# EAGLE library part SWITCH:DPDT (library QuantumOptics)
Switch, DPDT
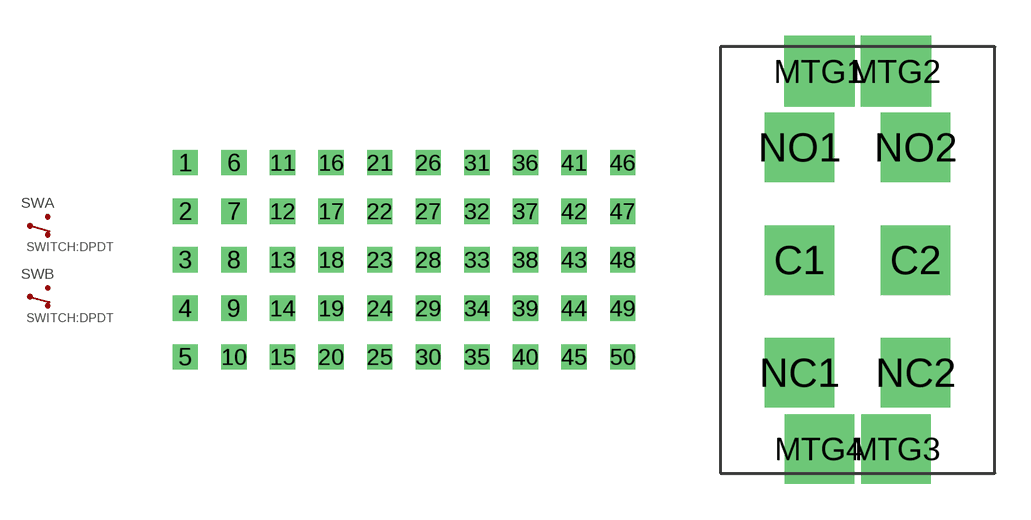
[diagram p28: symbol with the pads of PLACEHOLDER; footprints PLACEHOLDER, SWITCH-ESWITCH_100DP?VS2]

Designator prefix SW; gates A=SWITCH:SPDT B=SWITCH:SPDT

## SWITCH:DPDT  [PLACEHOLDER]
1  A:COM
2  A:NC\DOWN\LEFT
3  A:NO\UP\RIGHT
4  B:COM
5  B:NC\DOWN\LEFT
6  B:NO\UP\RIGHT

## SWITCH:DPDT-ESWITCH_100DP?VS2  [SWITCH-ESWITCH_100DP?VS2]
C1  A:COM
C2  B:COM
NC1  A:NC\DOWN\LEFT
NC2  B:NC\DOWN\LEFT
NO1  A:NO\UP\RIGHT
NO2  B:NO\UP\RIGHT

## SWITCH:DPDT-ESWITCH_2??D?AV2?  [SWITCH:E-SWITCH_2??D?AV2?]
COM1  A:COM
COM2  B:COM
DN1  A:NC\DOWN\LEFT
DN2  B:NC\DOWN\LEFT
UP1  A:NO\UP\RIGHT
UP2  B:NO\UP\RIGHT

## SWITCH:DPDT-ESWITCH_2??D?A?  [SWITCH:E-SWITCH_2??D?A?]
COM1  A:COM
COM2  B:COM
LEFT1  A:NC\DOWN\LEFT
LEFT2  B:NC\DOWN\LEFT
RIGHT1  A:NO\UP\RIGHT
RIGHT2  B:NO\UP\RIGHT

## SWITCH:DPDT-TYCO_MPG206RPC  [SWITCH:TYCO_MPG206RPC]
COM1  A:COM
COM2  B:COM
NC1  A:NC\DOWN\LEFT
NC2  B:NC\DOWN\LEFT
NO1  A:NO\UP\RIGHT
NO2  B:NO\UP\RIGHT

## SWITCH:DPDT-COPAL_CS4(6PAD)  [SWITCH:DPDT-DIP(COPAL-CS4_6-PAD)]
1  A:NC\DOWN\LEFT
2  A:NO\UP\RIGHT
!1  B:NC\DOWN\LEFT
!2  B:NO\UP\RIGHT
!C  B:COM
C  A:COM

## SWITCH:DPDT-COPAL_CAS-XXX-B  [SWITCH,DPDT,COPAL_CAS-XXX-B]
1  A:NO\UP\RIGHT
2  A:COM
3  A:NC\DOWN\LEFT
4  B:NC\DOWN\LEFT
5  B:COM
6  B:NO\UP\RIGHT

## Footprint PLACEHOLDER (pad centres in mm)
Non-existant decal, a Placeholder, used to make a part which does not need a package but Eagle demands something, e.g. if making schematic only and don't care about PCB. Pins are labeled "1" through "50".
drill 0.813 square: 1 -7.62,10.16; 2 -7.62,7.62; 3 -7.62,5.08; 4 -7.62,2.54; 5 -7.62,0; 6 -5.08,10.16; 7 -5.08,7.62; 8 -5.08,5.08; 9 -5.08,2.54; 10 -5.08,0; 11 -2.54,10.16; 12 -2.54,7.62; 13 -2.54,5.08; 14 -2.54,2.54; 15 -2.54,0; 16 0,10.16; 17 0,7.62; 18 0,5.08; 19 0,2.54; 20 0,0; 21 2.54,10.16; 22 2.54,7.62; 23 2.54,5.08; 24 2.54,2.54; 25 2.54,0; 26 5.08,10.16; 27 5.08,7.62; 28 5.08,5.08; 29 5.08,2.54; 30 5.08,0; 31 7.62,10.16; 32 7.62,7.62; 33 7.62,5.08; 34 7.62,2.54; 35 7.62,0; 36 10.16,10.16; 37 10.16,7.62; 38 10.16,5.08; 39 10.16,2.54; 40 10.16,0; 41 12.7,10.16; 42 12.7,7.62; 43 12.7,5.08; 44 12.7,2.54; 45 12.7,0; 46 15.24,10.16; 47 15.24,7.62; 48 15.24,5.08; 49 15.24,2.54; 50 15.24,0

## Footprint SWITCH-ESWITCH_100DP?VS2 (pad centres in mm)
E-Switch 100DPxTxBxVSxxx, DPDT, PCB mount with metal bracket for support. http://spec.e-switch.com/T-D/T123032B.pdf http://www.e-switch.com/pdf/100.pdf
drill 1.93 square: C1 -2.42,0; C2 2.42,0; MTG3 1.595,-7.875; MTG4 -1.595,-7.875; NC1 -2.42,-4.7; NC2 2.42,-4.7; NO1 -2.42,4.7; NO2 2.42,4.7
drill 1.93 pad 2.946 square: MTG1 -1.595,7.875; MTG2 1.595,7.875

## Footprint SWITCH:E-SWITCH_2??D?AV2? (pad centres in mm)
Toggle DPDT, right angle PCB, vertical actuation, C&K E-Switch series, such as E201MD1AV2BE (on-on) or E203MD1AV2BE (on-off-on).
drill 1.93 pad 3.302 square: COM1 0,-2.413; COM2 0,2.413; DN1 -3.81,-2.413; DN2 -3.81,2.413; UP1 3.81,-2.413; UP2 3.81,2.413
drill 1.93 pad 3.556 square: MTG1 16.51,-2.54; MTG2 16.51,2.54

## Footprint SWITCH:E-SWITCH_2??D?A? (pad centres in mm)
Toggle DPDT, right angle PCB, horizontal actator, C&K E-Switch series, such as E201MD1ABE (on-on).
drill 1.93 pad 3.302 square: COM1 0,0; COM2 -3.81,0; LEFT1 0,4.699; LEFT2 -3.81,4.699; RIGHT1 0,-4.699; RIGHT2 -3.81,-4.699
drill 1.93 pad 3.556 square: MTG1 12.7,-2.54; MTG2 12.7,2.54

## Footprint SWITCH:TYCO_MPG206RPC (pad centres in mm)
Switch, DPDT Mom, Tyco, MPG206RPC, http://documents.tycoelectronics.com/commerce/DocumentDelivery/DDEController?Action=srchrtrv&DocNm=4-1437567-9&DocType=CD&DocLang=EN
drill 1.88: COM1 0,2.413; COM2 0,-2.413; NC1 -4.318,2.413; NC2 -4.318,-2.413; NO1 4.318,2.413; NO2 4.318,-2.413

## Footprint SWITCH:DPDT-DIP(COPAL-CS4_6-PAD) (pad centres in mm)
DIP (SMT) switch, DPDT, Copal CS-4- footprint for 3mm J-hook or 5mm gullwing. http://media.digikey.com/pdf/Data%20Sheets/COPAL%20Electronics%20PDFs/CS-4.pdf
smd 0.8 x 2.5: 1 -1.3,2.75; 2 1.3,2.75; !1 1.3,-2.75; !2 -1.3,-2.75; !C 0,-2.75; C 0,2.75

## Footprint SWITCH,DPDT,COPAL_CAS-XXX-B (pad centres in mm)
DPDT SMT Switch, such as Copal CAS-220B, or can be used as solder jumpers.
smd 1.55 x 1.3: 1 -1.75,-2.65; 2 0,-2.65; 3 1.75,-2.65; 4 1.75,2.65; 5 0,2.65; 6 -1.75,2.65